# Altium schematic symbol library Components - 23.07.26 - 21.35.SchLib: 1 symbol
Pins are listed as number, name and electrical type; pins without a type are passive.

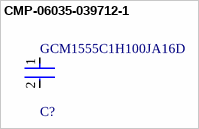
[diagram p0: symbol CMP-06035-039712-1]

## CMP-06035-039712-1
designator C?, comment GCM1555C1H100JA16D
Ceramic Capacitor for Automotive 10pF ±5% 50VDC C0G 0402 Paper T/R; Voltage Rating: 50V; Case/Package: 0402; Dielectric: C0G; Package Quantity: 10000; Ratings: AEC-Q200; Max Operating Temperature: 125°C; Width: 0.02inch; REACH SVHC: No SVHC; Mount: Surface Mount; Min Operating Temperature: -55°C; Lead Free: Lead Free; Packaging: Tape and Reel; Capacitance: 10pF; Case Code (Imperial): 0402; Tolerance: 5%; Height: 0.5mm; Thickness: 0.022inch; Length: 0.039inch; Case Code (Metric): 1005; Weight: 0.000212oz; Voltage Rating (DC): 50V; Termination: SMD/SMT
footprint FP-GCM155-0_05-MFG
footprint FP-GCM155-0_05-IPC_C
footprint FP-GCM155-0_05-IPC_A
footprint FP-GCM155-0_05-IPC_B
pins: 1, 2